# EAGLE library part MCP41HV51-103E/ST (library mcp41hv51)
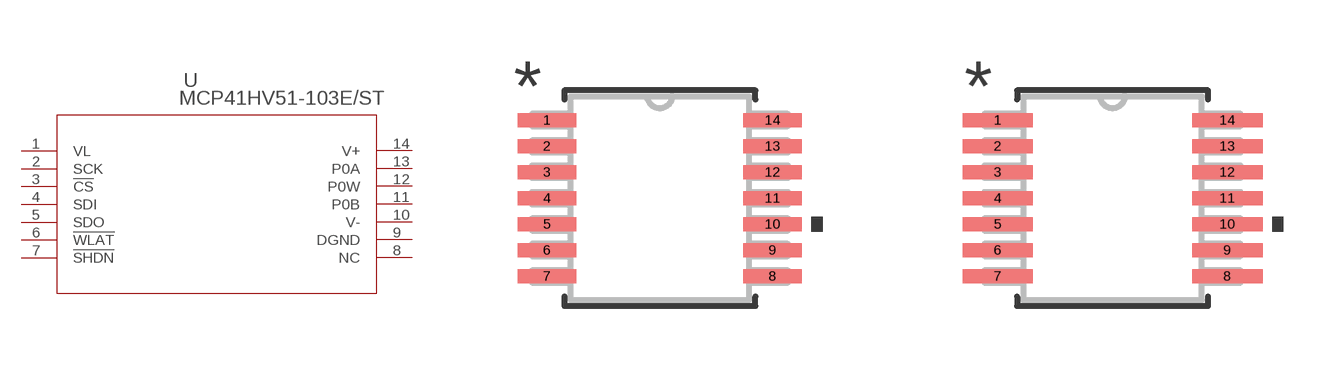
[diagram p0: symbol with the pads of TSSOP14_MC_MCH; footprints TSSOP14_MC_MCH, TSSOP14_MC_MCH-M]

Designator prefix U

## MCP41HV51-103E/ST (BUILT_BY: EMA_UL_Team; MANUFACTURER_PART_NUMBER: MCP41HV51-103E/ST; SOURCELIBRARY: Microchip_2014-11-20; VENDOR: Microchip)  [TSSOP14_MC_MCH]
1  VL  pwr
2  SCK  in
3  !CS  in
4  SDI  in
5  SDO  out
6  !WLAT  in
7  !SHDN  in
8  NC  nc
9  DGND  pwr
10  V-  pwr
11  P0B
12  P0W
13  P0A
14  V+  pwr

## MCP41HV51-103E/STTSSOP14_MC_MCH-M (BUILT_BY: EMA_UL_Team; MANUFACTURER_PART_NUMBER: MCP41HV51-103E/ST; SOURCELIBRARY: Microchip_2014-11-20; VENDOR: Microchip)  [TSSOP14_MC_MCH-M]
Pads as for TSSOP14_MC_MCH

## MCP41HV51-103E/STTSSOP14_MC_MCH-L (BUILT_BY: EMA_UL_Team; MANUFACTURER_PART_NUMBER: MCP41HV51-103E/ST; SOURCELIBRARY: Microchip_2014-11-20; VENDOR: Microchip)  [TSSOP14_MC_MCH-L]
Pads as for TSSOP14_MC_MCH

## Footprint TSSOP14_MC_MCH (pad centres in mm)
smd 1.462 x 0.355: 1 -2.819,1.95; 2 -2.819,1.3; 3 -2.819,0.65; 4 -2.819,0; 5 -2.819,-0.65; 6 -2.819,-1.3; 7 -2.819,-1.95; 8 2.819,-1.95; 9 2.819,-1.3; 10 2.819,-0.65; 11 2.819,0; 12 2.819,0.65; 13 2.819,1.3; 14 2.819,1.95

## Footprint TSSOP14_MC_MCH-M (pad centres in mm)
smd 1.762 x 0.355: 1 -2.869,1.95; 2 -2.869,1.3; 3 -2.869,0.65; 4 -2.869,0; 5 -2.869,-0.65; 6 -2.869,-1.3; 7 -2.869,-1.95; 8 2.869,-1.95; 9 2.869,-1.3; 10 2.869,-0.65; 11 2.869,0; 12 2.869,0.65; 13 2.869,1.3; 14 2.869,1.95

## Footprint TSSOP14_MC_MCH-L (pad centres in mm)
smd 1.162 x 0.305: 1 -2.769,1.95; 2 -2.769,1.3; 3 -2.769,0.65; 4 -2.769,0; 5 -2.769,-0.65; 6 -2.769,-1.3; 7 -2.769,-1.95; 8 2.769,-1.95; 9 2.769,-1.3; 10 2.769,-0.65; 11 2.769,0; 12 2.769,0.65; 13 2.769,1.3; 14 2.769,1.95